# Altium schematic symbol library PE42641.SchLib: 1 symbol
Pins are listed as number, name and electrical type; pins without a type are passive.

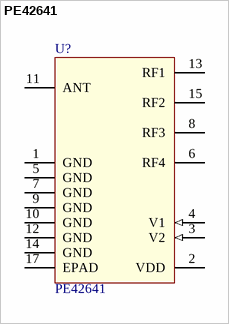
[diagram p0: symbol PE42641]

## PE42641
designator U?
The PE42641 is a HaRP™-enhanced SP4T RF switch; Value: PE42641
footprint QFN-16-3X3 (QFN, 16-Leads, Body 3,00x3,00mm, Pitch 0,50mm, Thermal Pad 1,68x1,68mm, IPC Low Density)
pins: 1 GND (power), 2 VDD (power), 3 V2 (in) "Switch control input, CMOS logic level", 4 V1 (in) "Switch control input, CMOS logic level", 5 GND (power), 6 RF4 "RF Port 4", 7 GND (power), 8 RF3 "RF Port 3", 9 GND (power), 10 GND (power), 11 ANT "RF Common – Antenna", 12 GND (power), 13 RF1 "RF Port 1", 14 GND (power), 15 RF2 "RF Port 2", 17 EPAD (power) "Ground for proper device operation"